# EAGLE library part LE33 (library v-reg-lowdrop)
Very low drop voltage regulator with inhibit
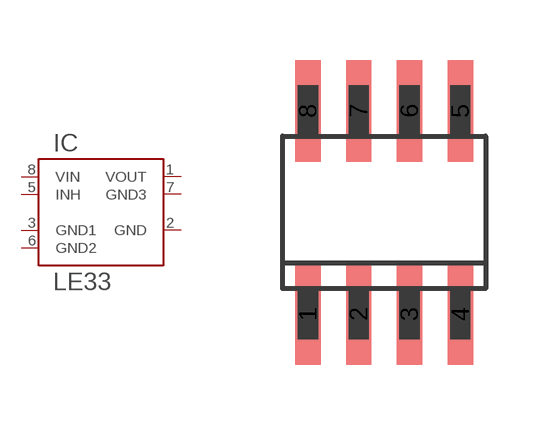
[diagram p0: symbol with the pads of SO08; footprint SO08]

Designator prefix IC

## LE33  [SO08]
1  VOUT  out
2  GND  pwr
3  GND1  pwr
5  INH  in
6  GND2  pwr
7  GND3  pwr
8  VIN  in

## Footprint SO08 (pad centres in mm)
smd 0.635 x 2.54: 1 -1.905,-2.54; 2 -0.635,-2.54; 3 0.635,-2.54; 4 1.905,-2.54; 5 1.905,2.54; 6 0.635,2.54; 7 -0.635,2.54; 8 -1.905,2.54